# EAGLE library part PCA9698DGG-518 (library PCA9698DGG_518)
PCA9698 - 40-bit Fm+ I2C-bus advanced I/O port with RESET, OE and INT Check prices <https://pricing.snapeda.com/parts/PCA9698DGG%2C518/NXP%20USA/view-part?ref=eda>
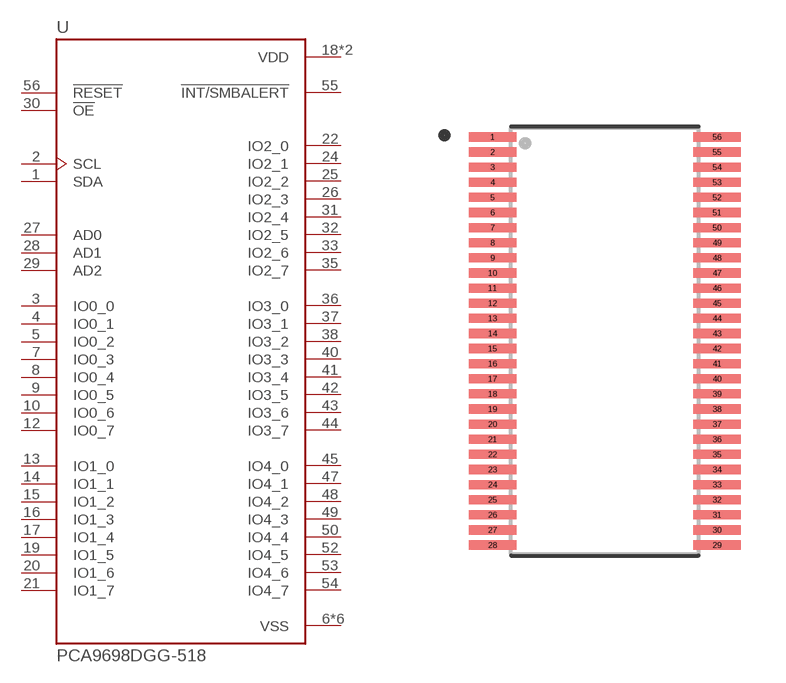
[diagram p0: symbol with the pads of SOP50P810X120-56N; footprint SOP50P810X120-56N]

Designator prefix U

## PCA9698DGG-518 (AVAILABILITY: In Stock; DESCRIPTION: I/O Expander 40 I²C 1MHz 56-TSSOP; MF: NXP USA; MP: PCA9698DGG,518; PACKAGE: TSSOP-56 NXP Semiconductors; PRICE: None; PURCHASE-URL: https://pricing.snapeda.com/search/part/PCA9698DGG,518/?ref=eda)  [SOP50P810X120-56N]
1  SDA
2  SCL  in
3  IO0_0
4  IO0_1
5  IO0_2
6  VSS  pwr
7  IO0_3
8  IO0_4
9  IO0_5
10  IO0_6
11  VSS  pwr
12  IO0_7
13  IO1_0
14  IO1_1
15  IO1_2
16  IO1_3
17  IO1_4
18  VDD  pwr
19  IO1_5
20  IO1_6
21  IO1_7
22  IO2_0
23  VSS  pwr
24  IO2_1
25  IO2_2
26  IO2_3
27  AD0  in
28  AD1  in
29  AD2  in
30  !OE  in
31  IO2_4
32  IO2_5
33  IO2_6
34  VSS  pwr
35  IO2_7
36  IO3_0
37  IO3_1
38  IO3_2
39  VSS  pwr
40  IO3_3
41  IO3_4
42  IO3_5
43  IO3_6
44  IO3_7
45  IO4_0
46  VDD  pwr
47  IO4_1
48  IO4_2
49  IO4_3
50  IO4_4
51  VSS  pwr
52  IO4_5
53  IO4_6
54  IO4_7
55  !INT/SMBALERT  out
56  !RESET  in

## Footprint SOP50P810X120-56N (pad centres in mm)
smd 1.59 x 0.29: 1 -3.715,6.75; 2 -3.715,6.25; 3 -3.715,5.75; 4 -3.715,5.25; 5 -3.715,4.75; 6 -3.715,4.25; 7 -3.715,3.75; 8 -3.715,3.25; 9 -3.715,2.75; 10 -3.715,2.25; 11 -3.715,1.75; 12 -3.715,1.25; 13 -3.715,0.75; 14 -3.715,0.25; 15 -3.715,-0.25; 16 -3.715,-0.75; 17 -3.715,-1.25; 18 -3.715,-1.75; 19 -3.715,-2.25; 20 -3.715,-2.75; 21 -3.715,-3.25; 22 -3.715,-3.75; 23 -3.715,-4.25; 24 -3.715,-4.75; 25 -3.715,-5.25; 26 -3.715,-5.75; 27 -3.715,-6.25; 28 -3.715,-6.75; 29 3.715,-6.75; 30 3.715,-6.25; 31 3.715,-5.75; 32 3.715,-5.25; 33 3.715,-4.75; 34 3.715,-4.25; 35 3.715,-3.75; 36 3.715,-3.25; 37 3.715,-2.75; 38 3.715,-2.25; 39 3.715,-1.75; 40 3.715,-1.25; 41 3.715,-0.75; 42 3.715,-0.25; 43 3.715,0.25; 44 3.715,0.75; 45 3.715,1.25; 46 3.715,1.75; 47 3.715,2.25; 48 3.715,2.75; 49 3.715,3.25; 50 3.715,3.75; 51 3.715,4.25; 52 3.715,4.75; 53 3.715,5.25; 54 3.715,5.75; 55 3.715,6.25; 56 3.715,6.75